# Altium schematic symbol library LimeMicroAltiumLib.SchLib: 659 symbols (part 21 of 22)
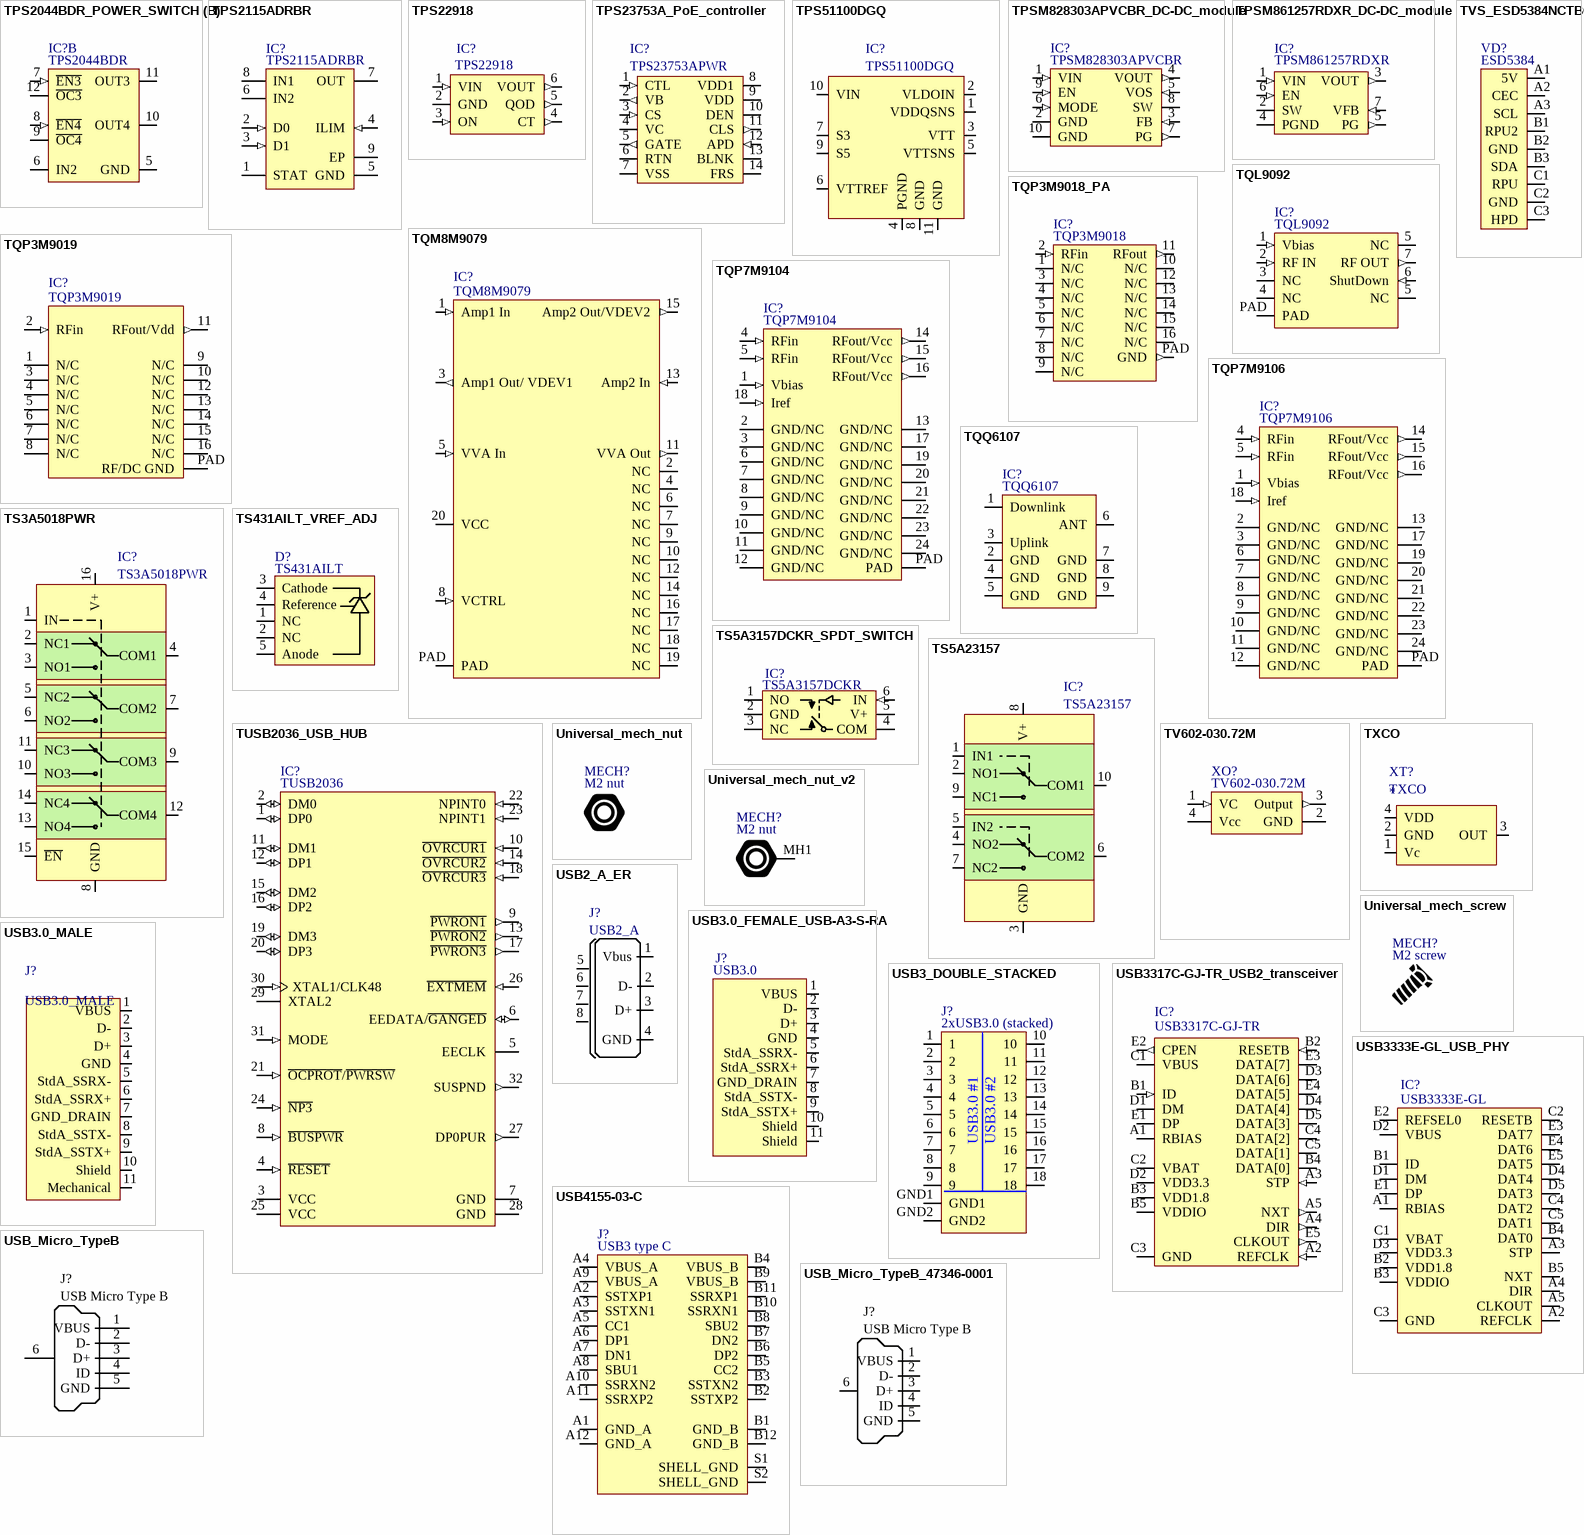
[diagram p98: symbols TPS2044BDR_POWER_SWITCH to USB_Micro_TypeB_47346-0001]

## TQP7M9104
designator IC?
2 Watt High Linearity Amplifier (700 - 2700 MHz); Part Description: RF Amplifier 700-4000MHZ 5VOLT GAIN 15.8DB NF 4.4DB; Manufacturer: Qorvo; Manufacturer Part Number 1: TQP7M9104; Supplier Part Number 1: 772-TQP7M9104; Supplier 1: Mouser
footprint TQP7M9104_QFN24
pins: 1 Vbias (in), 2 GND/NC, 3 GND/NC, 4 RFin (in), 5 RFin (in), 6 GND/NC, 7 GND/NC, 8 GND/NC, 9 GND/NC, 10 GND/NC, 11 GND/NC, 12 GND/NC, 13 GND/NC, 14 RFout/Vcc (out), 15 RFout/Vcc (out), 16 RFout/Vcc (out), 17 GND/NC, 18 Iref (in), 19 GND/NC, 20 GND/NC, 21 GND/NC, 22 GND/NC, 23 GND/NC, 24 GND/NC, PAD

## TQP7M9106
designator IC?
2 Watt High Linearity Amplifier (50 - 1500 MHz); Part Description: RF Amplifier 50-1500MHz 2W Gain 20.8dB@940MHz; Manufacturer: Qorvo; Manufacturer Part Number 1: TQP7M9106; Supplier Part Number 1: 772-TQP7M9106; Supplier 1: Mouser
footprint TQP7M9106_QFN24 (Footprint not found)
pins: 1 Vbias (in), 2 GND/NC, 3 GND/NC, 4 RFin (in), 5 RFin (in), 6 GND/NC, 7 GND/NC, 8 GND/NC, 9 GND/NC, 10 GND/NC, 11 GND/NC, 12 GND/NC, 13 GND/NC, 14 RFout/Vcc (out), 15 RFout/Vcc (out), 16 RFout/Vcc (out), 17 GND/NC, 18 Iref (in), 19 GND/NC, 20 GND/NC, 21 GND/NC, 22 GND/NC, 23 GND/NC, 24 GND/NC, PAD

## TQQ6107
designator IC?
Part Description: Band 7 BAW Duplexer, 70 MHz Bandwidth, 2.00 x 2.50 x 1.0 mm; Manufacturer Part Number 1: TQQ6107; Supplier Part Number 1: TQQ6107; Supplier 1: Qorvo
footprint TQQ6107
pins: 1 Downlink, 2 GND, 3 Uplink, 4 GND, 5 GND, 6 ANT (io), 7 GND, 8 GND, 9 GND

## TS3A5018PWR
designator IC?
Manufacturer: TEXAS INSTRUMENTS; On State Resistance Max: 10; Analog Switch Case: TSSOP; Supply Voltage Range: 2.3V to 3.6; No. of Pins: 16; Analog Switch Type: SPDT; Supplier 1: Newark; Manufacturer Part Number: TS3A5018PW; Supplier Part Number 1: 71J8329
footprint TS3A5018PWR (TSOP, 16-Leads, Body 5,00x4,40mm, Pitch 0,65mm, IPC Medium Density)
pins: 1 IN, 2 NC1, 3 NO1, 4 COM1, 5 NC2, 6 NO2, 7 COM2, 8 GND, 9 COM3, 10 NO3, 11 NC3, 12 COM4, 13 NO4, 14 NC4, 15 ~{EN}, 16 V+

## TS5A3157DCKR_SPDT_SWITCH
designator IC?, comment TS5A3157DCKR
Manufacturer: Texas Instruments; Part Description: 1 Circuit IC Switch 2:1 10Ohm SC-70-6; Nominal Supply Current: 2.5uA; Max Supply Voltage: 5.5V; Min Supply Voltage: 1.65V; Number of Channels: 1; Number of Outputs: 2; On-State Resistance: 10R; Turn-On Delay Time: 9.5ns; Turn-Off Delay Time: 7.5ns; Max Supply Current: 5uA; Throw Configuration: SPDT; Supply Type: Single; Bandwidth: 300MHz; Polarity: Non-Inverting; High Level Output Current: 100mA; Supplier 1: Digi-Key; Manufacturer Part Number 1: TS5A3157DCKR; Stock 1: 48414; Pricing 1: 1 = 0,42000, 10 = 0,35900, 100 = 0,26820, 500 = 0,21074, 1000 = 0,16284 (USD); RoHS: Yes; Mount: Surface Mount; Case/Package: SC; Number of Pins: 6; Weight: 8.8E-05oz; Contact Plating: Gold; Min Operating Temperature: -40°C; Max Operating Temperature: 85°C; Number of Inputs: 1; Packaging: Tape and Reel; Package Quantity: 1; Operating Supply Current: 2.5uA; Number of Bits: 1; Low Level Output Current: 100mA; Length: 2mm; Height: 0.9mm; Width: 1.25mm; Radiation Hardening: No; REACH SVHC: No SVHC; Lead Free: Lead Free; ComponentLink1URL: https://datasheet.ciiva.com/2980/ts5a3157-2980096.pdf?src-supplier=Avnet; ComponentLink1Description: https://datasheet.ciiva.com/2980/ts5a3157-2980096.pdf?src-supplier=Avnet; ComponentLink2URL: https://datasheet.ciiva.com/15127/getdatasheetpartid-250849-15127576.pdf?src-supplier=Verical; ComponentLink2Description: https://datasheet.ciiva.com/15127/getdatasheetpartid-250849-15127576.pdf?src-supplier=Verical; ComponentLink3URL: https://datasheet.ciiva.com/30509/ts5a3157dckr-30509768.pdf?src-supplier=RSComponents; ComponentLink3Description: https://datasheet.ciiva.com/30509/ts5a3157dckr-30509768.pdf?src-supplier=RSComponents; ComponentLink4URL: https://datasheet.ciiva.com/22652/1716489-22652683.pdf?src-supplier=Element14; ComponentLink4Description: https://datasheet.ciiva.com/22652/1716489-22652683.pdf?src-supplier=Element14; ComponentLink5URL: https://datasheet.ciiva.com/26266/ts5a3157-26266631.pdf?src-supplier=Avnet+Europe; ComponentLink5Description: https://datasheet.ciiva.com/26266/ts5a3157-26266631.pdf?src-supplier=Avnet+Europe; ComponentLink6URL: https://datasheet.ciiva.com/46382/1877040-46382312.pdf?src-supplier=Element14; ComponentLink6Description: https://datasheet.ciiva.com/46382/1877040-46382312.pdf?src-supplier=Element14; ComponentLink7URL: https://datasheet.ciiva.com/1680/ts5a3157-1680281.pdf?src-supplier=Digi-Key; ComponentLink7Description: https://datasheet.ciiva.com/1680/ts5a3157-1680281.pdf?src-supplier=Digi-Key; ComponentLink8URL: https://datasheet.ciiva.com/2978/ts5a3157-2978985.pdf?src-supplier=Avnet; ComponentLink8Description: https://datasheet.ciiva.com/2978/ts5a3157-2978985.pdf?src-supplier=Avnet; ComponentLink9URL: https://datasheet.ciiva.com/1680/ts5a3157-1680250.pdf?src-supplier=Digi-Key; ComponentLink9Description: https://datasheet.ciiva.com/1680/ts5a3157-1680250.pdf?src-supplier=Digi-Key; ComponentLink10URL: https://datasheet.ciiva.com/1680/ts5a3157-1680282.pdf?src-supplier=Digi-Key; ComponentLink10Description: https://datasheet.ciiva.com/1680/ts5a3157-1680282.pdf?src-supplier=Digi-Key; ComponentLink11URL: https://datasheet.ciiva.com/28500/ts5a3157-28500239.pdf?src-supplier=Element14; ComponentLink11Description: https://datasheet.ciiva.com/28500/ts5a3157-28500239.pdf?src-supplier=Element14; ComponentLink12URL: https://datasheet.ciiva.com/41461/001187245-da-01-en-ic-switch-spdt-ts5a3157dckr-sc-70-6-tid-41461835.pdf?src-supplier=Conrad; ComponentLink12Description: https://datasheet.ciiva.com/41461/001187245-da-01-en-ic-switch-spdt-ts5a3157dckr-sc-70-6-tid-41461835.pdf?src-supplier=Conrad; Supplier Part Number 1: 296-17588-1-ND
footprint SC-70-6_TS5A3157DCKR (SC-70 (SOT323), 6 pin)
pins: 1 NO (io), 2 GND, 3 NC (io), 4 COM (io), 5 V+ (power), 6 IN (in)

## TS5A23157
designator IC?
TS3A5018; Manufacturer: Texas Instruments; Current - Supply: 1µA; Circuit: 2 x SPDT; On-State Resistance: 10 Ohm; Voltage Supply Source: Single Supply; Voltage - Supply, Single/Dual (±): 1.8 V ~ 5.5 V; Function: Switch; Supplier 1: Digi-Key; Category: Integrated Circuits (ICs); Supplier Device Package: 10-VSSOP; Package / Case: 10-TFSOP, 10-MSOP (0.118", 3.00mm Width); Mounting Type: Surface Mount; Supplier Part Number 1: 296-17076-1-ND
footprint TS5A23157 (TSSOP, 10-Leads, Body 3,00x3,00mm, Pitch 0,50mm, IPC Medium Density)
pins: 1 IN1, 2 NO1, 3 GND, 4 NO2, 5 IN2, 6 COM2, 7 NC2, 8 V+, 9 NC1, 10 COM1

## TS431AILT_VREF_ADJ
designator D?, comment TS431AILT
Manufacturer: STMicroelectronics; Part Description: Shunt Voltage Reference IC 6V ±1% 30mA SOT-23-5; Nominal Supply Current: 30mA; Output Voltage: 6V; Max Input Voltage: 10V; Number of Channels: 1; Tolerance: 1%; Temperature Coefficient: 100ppm/°C; Cathode Current: 60uA; Reference Voltage: 1.24V; Min Output Voltage: 1.228V; Reference Type: Adjustable,Shunt; Supplier 1: Digi-Key; Manufacturer Part Number 1: TS431AILT; Stock 1: 5120; Pricing 1: 1=0.62, 10=0.533, 100=0.398, 500=0.3127, 1000=0.24164 (USD); Mount: Surface Mount; Case/Package: SOT-23-5; Number of Pins: 5; Min Operating Temperature: -40°C; Max Operating Temperature: 125°C; Packaging: Tape and Reel; Max Output Current: 30mA; Package Quantity: 1; Output Current: 30mA; Max Output Voltage: 6V; Termination: SMD/SMT; Length: 3mm; Height: 1.3mm; Width: 1.75mm; Radiation Hardening: No; REACH SVHC: No SVHC; Lead Free: Lead Free; ComponentLink1URL: https://www.verical.com/server-webapp/html/getDatasheet?partID=139054; ComponentLink1Description: https://www.verical.com/server-webapp/html/getDatasheet?partID=139054; ComponentLink2URL: http://www.st.com/content/ccc/resource/technical/document/datasheet/group1/3f/2e/70/d8/11/ee/47/a9/CD00001336/files/CD00001336.pdf/jcr:content/translations/en.CD00001336.pdf; ComponentLink2Description: http://www.st.com/content/ccc/resource/technical/document/datasheet/group1/3f/2e/70/d8/11/ee/47/a9/CD00001336/files/CD00001336.pdf/jcr:content/translations/en.CD00001336.pdf; ComponentLink3URL: http://www.st.com/web/en/resource/technical/document/datasheet/CD00001336.pdf; ComponentLink3Description: http://www.st.com/web/en/resource/technical/document/datasheet/CD00001336.pdf; ComponentLink4URL: http://www.farnell.com/datasheets/1700526.pdf; ComponentLink4Description: http://www.farnell.com/datasheets/1700526.pdf; ComponentLink5URL: http://www.mouser.com/ds/2/389/ts431-957324.pdf; ComponentLink5Description: http://www.mouser.com/ds/2/389/ts431-957324.pdf; ComponentLink6URL: http://www.produktinfo.conrad.com/datenblaetter/1100000-1199999/001185084-da-01-en-IC_VREF_SHUNT_PRE_TS431AILT_SOT_23_5_STM.pdf; ComponentLink6Description: http://www.produktinfo.conrad.com/datenblaetter/1100000-1199999/001185084-da-01-en-IC_VREF_SHUNT_PRE_TS431AILT_SOT_23_5_STM.pdf; ComponentLink7URL: http://datasheet.iiic.cc/stmicroelectronics/TS431AILT.pdf; ComponentLink7Description: http://datasheet.iiic.cc/stmicroelectronics/TS431AILT.pdf; Supplier Part Number 1: 497-2279-6-ND
footprint SOT23-5
pins: 1 NC, 2 NC, 3 Cathode, 4 Reference, 5 Anode

## TUSB2036_USB_HUB
designator IC?, comment TUSB2036
Part Description: USB Hub Controller USB 2.0 USB Interface 32-LQFP (7x7); Manufacturer: Texas Instruments; Manufacturer Part Number 1: TUSB2036VF; Operating Supply Voltage: 3.3V; Operating Supply Current: 40mA; Data Rate: 12Mbps; Min Supply Voltage: 3V; Max Supply Voltage: 3.6V; Number of Ports: 3; USB Standard: USB 2.0; ComponentLink1URL: https://datasheet.ciiva.com/1505/1535702-1505189.pdf?src-supplier=Element14; ComponentLink1Description: https://datasheet.ciiva.com/1505/1535702-1505189.pdf?src-supplier=Element14; ComponentLink2URL: https://datasheet.ciiva.com/1613/tusb2036-1613315.pdf?src-supplier=Newark; ComponentLink2Description: https://datasheet.ciiva.com/1613/tusb2036-1613315.pdf?src-supplier=Newark; ComponentLink3URL: https://datasheet.ciiva.com/15134/getdatasheetpartid-225880-15134503.pdf?src-supplier=Verical; ComponentLink3Description: https://datasheet.ciiva.com/15134/getdatasheetpartid-225880-15134503.pdf?src-supplier=Verical; ComponentLink4URL: https://datasheet.ciiva.com/5835/1535702-5835498.pdf?src-supplier=Farnell; ComponentLink4Description: https://datasheet.ciiva.com/5835/1535702-5835498.pdf?src-supplier=Farnell; ComponentLink5URL: https://datasheet.ciiva.com/1695/tusb2036-1695700.pdf?src-supplier=Digi-Key; ComponentLink5Description: https://datasheet.ciiva.com/1695/tusb2036-1695700.pdf?src-supplier=Digi-Key; ComponentLink6URL: https://datasheet.ciiva.com/41461/001187495-da-01-en-ic-2-3-port-usb-h-tusb2036vf-lqfp-32-tid-41461301.pdf?src-supplier=Conrad; ComponentLink6Description: https://datasheet.ciiva.com/41461/001187495-da-01-en-ic-2-3-port-usb-h-tusb2036vf-lqfp-32-tid-41461301.pdf?src-supplier=Conrad; Supplier 1: Digi-Key; Supplier Part Number 1: 296-11086-ND; Stock 1: 77; Pricing 1: 1=4,18000, 10=3,75400, 25=3,54880, 80=3,07575, 250=2,91796, 500=2,61828, 1000=2,38080 (USD); RoHS: Yes; Case/Package: LQFP; Number of Pins: 32; Weight: 0.006148oz; Min Operating Temperature: 0°C; Max Operating Temperature: 70°C; Package Quantity: 250; Packaging: Tray; Termination: SMD/SMT; Length: 7mm; Width: 7mm; Height: 1.4mm; Radiation Hardening: No; Lead Free: Lead Free; RoHS Compliant: Yes; REACH SVHC: No SVHC
footprint TUSB2036_USB_HUB_32-LQFP (Footprint not found)
pins: 1 DP0 (io) "Root port USB differential data plus. DP0 paired with DM0 constitutes the upstream USB port.", 2 DM0 (io) "Root port USB differential data minus. DM0 paired with DP0 constitutes the upstream USB port.", 3 VCC (power) "3.3-V supply voltage", 4 ~{RESET} (in) "R\E\S\E\T\ is an active low TTL input with hysteresis and must be asserted at power up. When R\E\S\E\T\ is asserted, all logic is initialized. Generally, a reset with a pulse width between 100 us and 1 ms is recommended (See Datasheet)", 5 EECLK (hiz) "EEPROM serial clock. When EXTMEM is high, the EEPROM interface is disabled. The EECLK terminal is disabled and must be left floating (unconnected). When EXTMEM is low, EECLK acts as a 3-state serial clock output to the (See Datasheet)", 6 EEDATA/~{GANGED} (io) "EEPROM serial data/power-management mode indicator. When E\X\T\M\E\M\ is high, EEDATA/G\A\N\G\E\D\ selects between ganged or per-port power overcurrent detection for the downstream ports. When E\X\T\M\E\M\ is (See Datasheet)", 7 GND (power) "GND terminals must be tied to ground for proper operation", 8 ~{BUSPWR} (in) "Power source indicator. B\U\S\P\W\R\ is an active-low input that indicates whether the downstream ports source their power from the USB cable or a local power supply. For the bus-power mode, this terminal must be pulled low, (See Datasheet)", 9 ~{PWRON1} (out) "Power-on/-off control signals. P\W\R\O\N\1\-P\W\R\O\N\3\ are active low, push-pull outputs that enables the external power switch device. Push-pull outputs eliminate the pullup resistors which open-drain outputs require. (See Datasheet)", 10 ~{OVRCUR1} (in) "Overcurrent input. O\V\R\C\U\R\1\ - O\V\R\C\U\R\3\ are active low. For per-port overcurrent detection, one overcurrent input is available for each of the three downstream ports. In the ganged mode, any O\V\R\C\U\R\ input may (See Datasheet)", 11 DM1 (io) "USB differential data minus. DM1-DM3 paired with DP1-DP3 support up to four downstream USB ports.", 12 DP1 (io) "USB differential data plus. DP1-DP3 paired with DM1-DM3 support up to four downstream USB ports.", 13 ~{PWRON2} (out) "Power-on/-off control signals. P\W\R\O\N\1\-P\W\R\O\N\3\ are active low, push-pull outputs that enables the external power switch device. Push-pull outputs eliminate the pullup resistors which open-drain outputs require. (See Datasheet)", 14 ~{OVRCUR2} (in) "Overcurrent input. O\V\R\C\U\R\1\ - O\V\R\C\U\R\3\ are active low. For per-port overcurrent detection, one overcurrent input is available for each of the three downstream ports. In the ganged mode, any O\V\R\C\U\R\ input may (See Datasheet)", 15 DM2 (io) "USB differential data minus. DM1-DM3 paired with DP1-DP3 support up to four downstream USB ports.", 16 DP2 (io) "USB differential data plus. DP1-DP3 paired with DM1-DM3 support up to four downstream USB ports.", 17 ~{PWRON3} (out) "Power-on/-off control signals. P\W\R\O\N\1\-P\W\R\O\N\3\ are active low, push-pull outputs that enables the external power switch device. Push-pull outputs eliminate the pullup resistors which open-drain outputs require. (See Datasheet)", 18 ~{OVRCUR3} (in) "Overcurrent input. O\V\R\C\U\R\1\ - O\V\R\C\U\R\3\ are active low. For per-port overcurrent detection, one overcurrent input is available for each of the three downstream ports. In the ganged mode, any O\V\R\C\U\R\ input may (See Datasheet)", 19 DM3 (io) "USB differential data minus. DM1-DM3 paired with DP1-DP3 support up to four downstream USB ports.", 20 DP3 (io) "USB differential data plus. DP1-DP3 paired with DM1-DM3 support up to four downstream USB ports.", 21 ~{OCPROT}/~{PWRSW} (in) "Overcurrent Protection for bus-powered hub (active low). /Power Switching for self-powered hub (active low). The terminal has a different meaning for the bus or self-powered hub. If the terminal is logic high the internal (See Datasheet)", 22 NPINT0 (in) "Number of ports internal to hub system, which are permanently attached (see Table 1).", 23 NPINT1 (in) "Number of ports internal to hub system, which are permanently attached (see Table 1).", 24 ~{NP3} (in) "Number of ports is 3. Active low input. A logic 0 configures the system to use 3 ports. A logic 1 configures the system to use 2 ports.", 25 VCC (power) "3.3-V supply voltage", 26 ~{EXTMEM} (in) "When E\X\T\M\E\M\ is high, the serial EEPROM interface of the device is disabled. When E\X\T\M\E\M\ is low, terminals 5 and 6 are configured as the clock and data terminals of the serial EEPROM interface, respectively.", 27 DP0PUR (out) "Pullup resistor connection. When a system reset happens (R\E\S\E\T\ being driven to low, but not USB reset) or any logic level change on B\U\S\P\W\R\ terminal, DP0PUR output is inactive (floating) until the internal counter (See Datasheet)", 28 GND (power) "GND terminals must be tied to ground for proper operation.", 29 XTAL2 "Crystal 2. XTAL2 is a 6-MHz crystal output. This terminal must be left open when using an oscillator", 30 XTAL1/CLK48 (in) "Crystal 1/48-MHz clock input. When MODE is low, XTAL1/CLK48 is a 6-MHz crystal input with 50% duty cycle. An internal APLL generates the 48-MHz and 12-MHz clocks used internally by the ASIC logic. When MODE is (See Datasheet)", 31 MODE (in) "Mode select. When MODE is low, the APLL output clock is selected as the clock source to drive the internal core of the device and 6-MHz crystal or oscillator can be used. When MODE is high, the clock on XTAL1/CLK48 is (See Datasheet)", 32 SUSPND (out) "Suspend status. SUSPND is an active high output available for external logic power-down operations. During the suspend mode, SUSPND is high. SUSPND is low for normal operation."

## TV602-030.72M
designator XO?
Part Description: TV602-030.72M voltage controlled oscillator, 5x7mm, high stability and low phase noise; Manufacturer: Connor Winfield; Supplier Part Number 1: TV602-030.72M; Manufacturer Part Number 1: TV602-030.72M; Supplier 1: Connor Winfield
footprint TV602-030.72M (TV602-030.72M Connor Winfield)
pins: 1 VC (in), 2 GND, 3 Output (out), 4 Vcc (power)

## TVS_ESD5384NCTBG
designator VD?, comment ESD5384
Manufacturer: ON Semiconductor; Manufacturer Part Number 1: ESD5384NCTBG; Part Description: TVS DIODE 3V 9WLCSP; Capacitance: 29pF; Direction: Unidirectional; Number of Unidirectional Channels: 5; Reverse Standoff Voltage: 3V; Min Breakdown Voltage: 6V; Power Line Protection: No; ESD Protection: Yes; Max Reverse Leakage Current: 200nA; Supplier 1: Digi-Key; Stock 1: 4993; Pricing 1: 1=0.47, 10=0.406, 100=0.3028, 500=0.23794, 1000=0.18386 (USD); Number of Pins: 9; Min Operating Temperature: -30°C; Max Operating Temperature: 85°C; Package Quantity: 5000; Packaging: Tape and Reel; Number of Lines: 5; Composition: Zener; Length: 1.14mm; Height: 0.63mm; Width: 1.14mm; Depth: 1.14mm; Radiation Hardening: No; Lead Free: Lead Free; Halogen Free: Halogen Free; Supplier Part Number 1: ESD5384NCTBGOSDKR-ND
footprint TVS_ ESD5384NCTBG
pins: A1 5V, A2 CEC, A3 SCL, B1 RPU2, B2 GND, B3 SDA, C1 RPU, C2 GND, C3 HPD

## TXCO
designator XT?
Assembly Info: *
pins: 1 Vc, 2 GND, 3 OUT, 4 VDD

## Universal_mech_nut
designator MECH?, comment M2 nut  (mechanical)
Part Description: *

## Universal_mech_nut_v2
designator MECH?, comment M2 nut
Part Description: *
pins: MH1 GND

## Universal_mech_screw
designator MECH?, comment M2 screw  (mechanical)
Part Description: *

## USB2_A_ER
designator J?, comment USB2_A
Manufacturer Part Number: A-USB/2-A-E-R; Connector Type: USB - A; Specifications: USB 2.0; Number of Contacts: 4; Supplier 1: Digi-Key; Category: Connectors, Interconnects; Supplier Part Number 1: AE10400-ND
footprint USB2_A
pins: 1 Vbus, 2 D-, 3 D+, 4 GND, 5 Shell, 6 Shell, 7 Shell, 8 Shell

## USB3.0_FEMALE_USB-A3-S-RA
designator J?, comment USB3.0
Part Description: USB-A (USB TYPE-A) USB 3.2 Gen 1 (USB 3.1 Gen 1, Superspeed (USB 3.0)) Receptacle Connector 9 Position Through Hole, Right Angle; Manufacturer: Adam Tech; Manufacturer Part Number 1: USB-A3-S-RA; Contact Resistance: 30mΩ; Current Rating: 1A; Gender: Male; Insulation Resistance: 1GΩ; Number of Contacts: 9; Number of Ports: 1; Ratings: CSA; Supplier 1: DigiKey; Supplier Part Number 1: 2057-USB-A3-S-RA-ND; Stock 1: 3821; Pricing 1: 1=0,65, 10=0,555, 25=0,5204, 50=0,4956, 100=0,4718, 300=0,4366, 500=0,42112, 1000=0,40101, 2500=0,3759 (USD); RoHS: Compliant; Lifecycle Status: Production; Max Operating Temperature: 85°C; Min Operating Temperature: -55°C; REACH SVHC: Yes; Shell Finish: Nickel; Shell Material: Steel; ComponentLink1URL: https://datasheet.octopart.com:443/USB-A3-S-RA-Adam-Tech-datasheet-169583510.pdf?src-supplier=IHS; ComponentLink1Description: https://datasheet.octopart.com:443/USB-A3-S-RA-Adam-Tech-datasheet-169583510.pdf?src-supplier=IHS; ComponentLink2URL: https://datasheet.octopart.com:443/USB-A3-S-RA-Adam-Tech-datasheet-21182917.pdf?src-supplier=Electro+Sonic; ComponentLink2Description: https://datasheet.octopart.com:443/USB-A3-S-RA-Adam-Tech-datasheet-21182917.pdf?src-supplier=Electro+Sonic; ComponentLink3URL: http://sigma.octopart.com:80/reach_statement/Adam-Tech-company-23.pdf?src-supplier=Compliance+Statements; ComponentLink3Description: http://sigma.octopart.com:80/reach_statement/Adam-Tech-company-23.pdf?src-supplier=Compliance+Statements; ComponentLink4URL: http://sigma.octopart.com:80/rohs_statement/Adam-Tech-company-22.pdf?src-supplier=Compliance+Statements; ComponentLink4Description: http://sigma.octopart.com:80/rohs_statement/Adam-Tech-company-22.pdf?src-supplier=Compliance+Statements
footprint USB3.0_FEMALE_USB-A3-S-RA (Footprint not found)
pins: 1 VBUS, 2   D-, 3 D+, 4 GND, 5 StdA_SSRX-, 6 StdA_SSRX+, 7 GND_DRAIN, 8 StdA_SSTX-, 9 StdA_SSTX+, 10 Shield, 11 Shield

## USB3.0_MALE
designator J?
Manufacturer Part Number 1: 692112030100; Manufacturer: Wurth Electronics Inc; Part Description: USB - A USB 3.0, Super Speed Plug Connector 9 Position Surface Mount, Right Angle, Horizontal; Specifications: USB 3.0, Super Speed; Number of Contacts: 9; Connector Type: USB - A; Gender: Plug; Packaging: Tray; Features: Board Lock, Shielded; Ingress Protection: -; Category: Connectors, Interconnects; RoHS: RoHS Compliant; Mounting Type: Surface Mount, Right Angle, Horizontal; Supplier 1: Digi-Key; Supplier Part Number 1: 732-3157-ND
footprint USB3A_SM
pins: 1 VBUS, 2   D-, 3 D+, 4 GND, 5 StdA_SSRX-, 6 StdA_SSRX+, 7 GND_DRAIN, 8 StdA_SSTX-, 9 StdA_SSTX+, 10 Shield, 11 Mechanical

## USB3_DOUBLE_STACKED
designator J?, comment 2xUSB3.0 (stacked)
Part Description: 2xUSB3.0, vertical, stacked
footprint USB3_DOUBLE_STACKED
pins: 1, 2, 3, 4, 5, 6, 7, 8, 9, 10, 11, 12, 13, 14, 15, 16, 17, 18, GND1, GND2
text: USB3.0 #1; USB3.0 #2

## USB3317C-GJ-TR_USB2_transceiver
designator IC?, comment USB3317C-GJ-TR
Part Description: IC TXRX USB 2.0 FLEXPWR 25BGA; Manufacturer: Microchip; Manufacturer Lifecycle Status: REL; Max Dual Supply Voltage: 5.5V; Number of Transceivers: 1; Supplier 1: DigiKey; Supplier Part Number 1: 150-USB3317C-GJ-TRCT-ND; Manufacturer Part Number 1: USB3317C-GJ-TR; Stock 1: 1646; Pricing 1: 1=2,07, 25=1,836 (USD); RoHS: Compliant; Projected EOL Date: 2034-04-15; Country of Assembly: Taiwan; Country of Fabrication: United States of America; Country of Origin: Taiwan; Export Control Classification Number (ECCN) Code: EAR99; HS Code: 8542.39.0090; Harmonized Tariff Schedule (HTS) Code: 8542.31.0030; Lifecycle Status: Production; Max Operating Temperature: 85°C; Min Operating Temperature: -40°C; Mount: Surface Mount; Number of Pins: 25; Radiation Hardening: No; ComponentLink1URL: https://datasheet.octopart.com:443/USB3317C-GJ-TR-Microchip-datasheet-99356273.pdf?src-supplier=Microchip; ComponentLink1Description: https://datasheet.octopart.com:443/USB3317C-GJ-TR-Microchip-datasheet-99356273.pdf?src-supplier=Microchip; ComponentLink2URL: https://datasheet.octopart.com:443/USB3317C-GJ-TR-Microchip-datasheet-110745152.pdf?src-supplier=Augswan; ComponentLink2Description: https://datasheet.octopart.com:443/USB3317C-GJ-TR-Microchip-datasheet-110745152.pdf?src-supplier=Augswan; ComponentLink3URL: http://sigma.octopart.com:80/188457950/materials_sheet/Microchip-USB3317C-GJ-TR.pdf?src-supplier=Compliance+Statements; ComponentLink3Description: http://sigma.octopart.com:80/188457950/materials_sheet/Microchip-USB3317C-GJ-TR.pdf?src-supplier=Compliance+Statements; ComponentLink4URL: http://sigma.octopart.com:80/rohs_statement/Microchip-company-71.pdf?src-supplier=Compliance+Statements; ComponentLink4Description: http://sigma.octopart.com:80/rohs_statement/Microchip-company-71.pdf?src-supplier=Compliance+Statements; ComponentLink5URL: http://sigma.octopart.com:80/reach_statement/Microchip-company-70.pdf?src-supplier=Compliance+Statements; ComponentLink5Description: http://sigma.octopart.com:80/reach_statement/Microchip-company-70.pdf?src-supplier=Compliance+Statements; ComponentLink6URL: http://sigma.octopart.com:80/conflict_mineral_statement/Microchip-company-69.pdf?src-supplier=Compliance+Statements; ComponentLink6Description: http://sigma.octopart.com:80/conflict_mineral_statement/Microchip-company-69.pdf?src-supplier=Compliance+Statements; ComponentLink7URL: http://sigma.octopart.com:80/conflict_mineral_statement/Microchip-company-68.pdf?src-supplier=Compliance+Statements; ComponentLink7Description: http://sigma.octopart.com:80/conflict_mineral_statement/Microchip-company-68.pdf?src-supplier=Compliance+Statements
footprint USB3317C-GJ-TR_USB2_transceiver
pins: A1 RBIAS, A2 REFCLK (in), A3 STP (in), A4 DIR (out), A5 NXT (out), B1 ID (in), B2 RESETB (in), B3 VDD1.8 (power), B4 DATA[0], B5 VDDIO (power), C1 VBUS, C2 VBAT (power), C3 GND (power), C4 DATA[2], C5 DATA[1], D1 DM, D2 VDD3.3 (power), D3 DATA[6], D4 DATA[4], D5 DATA[3], E1 DP, E2 CPEN (out), E3 DATA[7], E4 DATA[5], E5 CLKOUT (out)

## USB3333E-GL_USB_PHY
designator IC?, comment USB3333E-GL
IC USB 2.0 FHY; Part Description: Transceiver Half USB 2.0 25-WLCSP (1.97x1.97); Manufacturer: Microchip; Manufacturer Part Number 1: USB3333E-GL-TR; Data Rate: 480Mbps; Supplier 1: Digi-Key; Supplier Part Number 1: USB3333E-GL-TR-ND; Stock 1: 0; RoHS: Yes; Packaging: Tape and Reel; Package Quantity: 3000; Series: *; RoHS Compliant: Yes; ComponentLink1URL: https://datasheet.ciiva.com/6634/usb333x-6634538.pdf?src-supplier=Digi-Key; ComponentLink1Description: https://datasheet.ciiva.com/6634/usb333x-6634538.pdf?src-supplier=Digi-Key
footprint USB3333E-GL_USB_PHY_25WLCSP (Footprint not found)
pins: A1 RBIAS, A2 REFCLK, A3 STP, A4 DIR, A5 CLKOUT, B1 ID, B2 VDD1.8, B3 VDDIO, B4 DAT0, B5 NXT, C1 VBAT, C2 RESETB, C3 GND, C4 DAT2, C5 DAT1, D1 DM, D2 VBUS, D3 VDD3.3, D4 DAT4, D5 DAT3, E1 DP, E2 REFSEL0, E3 DAT7, E4 DAT6, E5 DAT5

## USB4155-03-C
designator J?, comment USB3 type C
Manufacturer: Global Connector Technology; Manufacturer Part Number 1: USB4155-03-C; Part Description: USB Connectors USB Type C, Plug, SMT , G/F, Right Angled Mount, T & R; Supplier 1: Digi-Key; Supplier Part Number 1: 2073-USB4155-03-CCT-ND; Stock 1: 0; RoHS: No
footprint USB4155-03-C (USB3 type C connector)
pins: A1 GND_A (power), A2 SSTXP1 (io), A3 SSTXN1 (io), A4 VBUS_A (power), A5 CC1 (io), A6 DP1 (io), A7 DN1 (io), A8 SBU1 (io), A9 VBUS_A (power), A10 SSRXN2 (io), A11 SSRXP2 (io), A12 GND_A (power), B1 GND_B (power), B2 SSTXP2 (io), B3 SSTXN2 (io), B4 VBUS_B (power), B5 CC2 (io), B6 DP2 (io), B7 DN2 (io), B8 SBU2 (io), B9 VBUS_B (power), B10 SSRXN1 (io), B11 SSRXP1 (io), B12 GND_B (power), S1 SHELL_GND (power), S2 SHELL_GND (power)

## USB_Micro_TypeB
designator J?, comment USB Micro Type B
Connector SMD USB Micro Type B; Connector Type: USB - micro B; Number of Contacts: 5; Supplier 1: Digi-Key; Category: Connectors, Interconnects; Mounting Type: Surface Mount, Right Angle, Horizontal; Supplier Part Number 1: 609-4616-2-ND
footprint microUSB
pins: 1 VBUS, 2 D-, 3 D+, 4 ID, 5 GND, 6 Shell

## USB_Micro_TypeB_47346-0001
designator J?, comment USB Micro Type B
Connector SMD USB Micro Type B; Part Description: USB - micro B USB 2.0 Receptacle Connector 5 Position Surface Mount, Right Angle; Manufacturer: Molex; Manufacturer Part Number 1: 47346-0001; Supplier 1: Digi-Key; Supplier Part Number 1: WM17141CT-ND; Stock 1: 48746; Pricing 1: 1=1,66000, 10=1,41200, 100=1,16660, 1000=0,92100 (USD); RoHS: Yes; ComponentLink1URL: https://datasheet.ciiva.com/30075/304740473460001-io-nectors-30075527.pdf?src-supplier=Onlinecomponents.com; ComponentLink1Description: https://datasheet.ciiva.com/30075/304740473460001-io-nectors-30075527.pdf?src-supplier=Onlinecomponents.com; ComponentLink2URL: https://datasheet.ciiva.com/22654/1630785-22654942.pdf?src-supplier=Element14; ComponentLink2Description: https://datasheet.ciiva.com/22654/1630785-22654942.pdf?src-supplier=Element14; ComponentLink3URL: https://datasheet.ciiva.com/16148/1700180473460001-io-nectors-16148917.pdf?src-supplier=Onlinecomponents.com; ComponentLink3Description: https://datasheet.ciiva.com/16148/1700180473460001-io-nectors-16148917.pdf?src-supplier=Onlinecomponents.com; ComponentLink4URL: https://datasheet.ciiva.com/11731/0900766b80dfe0a7-11731298.pdf?src-supplier=RSComponents; ComponentLink4Description: https://datasheet.ciiva.com/11731/0900766b80dfe0a7-11731298.pdf?src-supplier=RSComponents; ComponentLink5URL: https://datasheet.ciiva.com/1098/1698067-1098476.pdf?src-supplier=Element14; ComponentLink5Description: https://datasheet.ciiva.com/1098/1698067-1098476.pdf?src-supplier=Element14; ComponentLink6URL: https://datasheet.ciiva.com/4598/0473460001-io-connectors-146446-4598841.pdf?src-supplier=Mouser; ComponentLink6Description: https://datasheet.ciiva.com/4598/0473460001-io-connectors-146446-4598841.pdf?src-supplier=Mouser; ComponentLink7URL: https://datasheet.ciiva.com/28504/0473460001-io-connectors-28504587.pdf?src-supplier=Element14; ComponentLink7Description: https://datasheet.ciiva.com/28504/0473460001-io-connectors-28504587.pdf?src-supplier=Element14; ComponentLink8URL: https://datasheet.ciiva.com/46390/1681853-46390956.pdf?src-supplier=Element14; ComponentLink8Description: https://datasheet.ciiva.com/46390/1681853-46390956.pdf?src-supplier=Element14; ComponentLink9URL: https://datasheet.ciiva.com/16986/70266948-16986683.pdf?src-supplier=Allied+Electronics; ComponentLink9Description: https://datasheet.ciiva.com/16986/70266948-16986683.pdf?src-supplier=Allied+Electronics
footprint USB_Micro_TypeB_47346-0001 (Footprint not found)
pins: 1 VBUS, 2 D-, 3 D+, 4 ID, 5 GND, 6 Shell

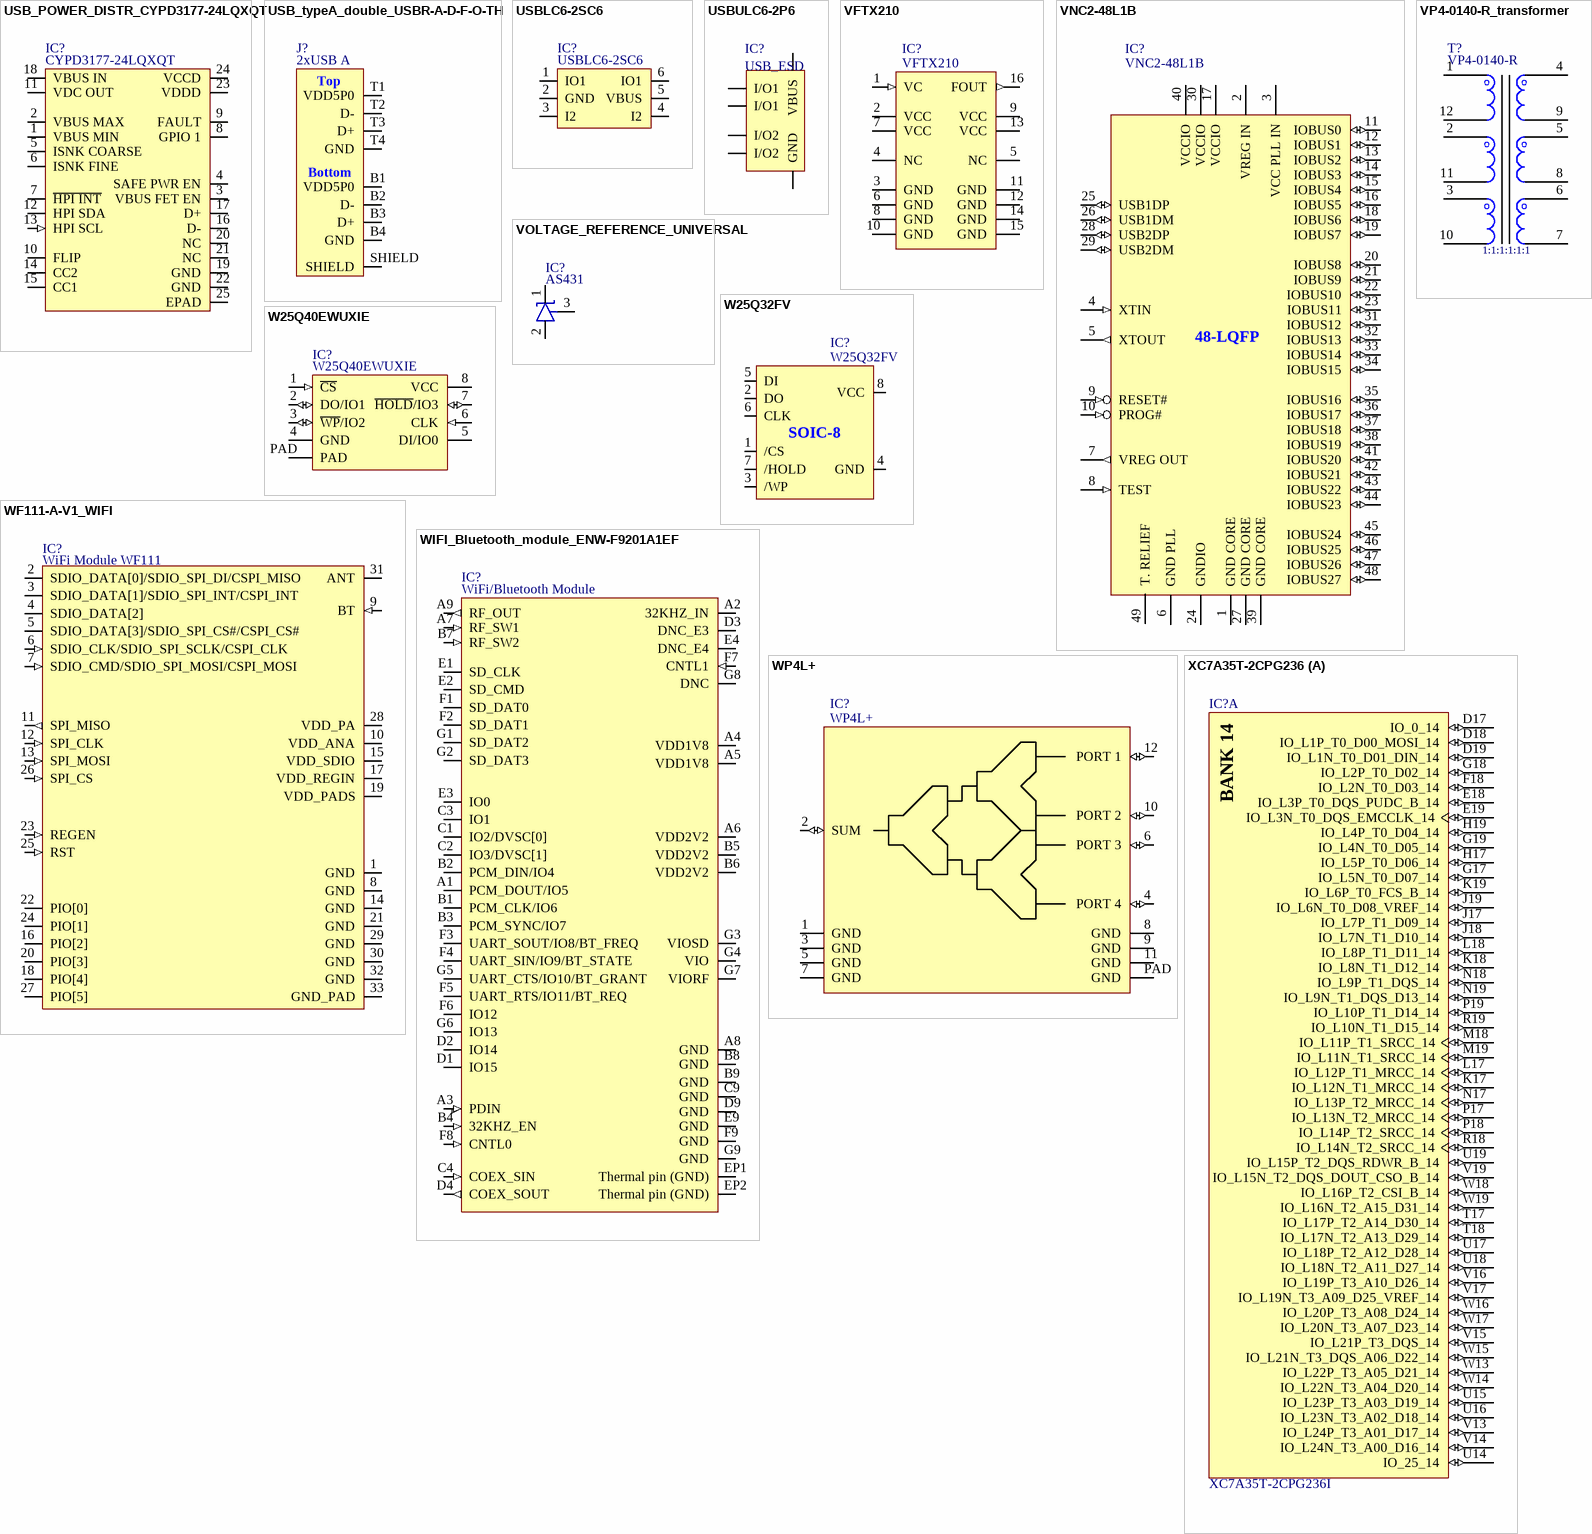
[diagram p70: symbols USB_POWER_DISTR_CYPD3177-24LQXQT to XC7A35T-2CPG236]

## USB_POWER_DISTR_CYPD3177-24LQXQT
designator IC?, comment CYPD3177-24LQXQT
Part Description: 428-CYPD3177-24LQXQTCT-ND; Manufacturer: Cypress; Supplier 1: Digi-Key; Supplier Part Number 1: 428-CYPD3177-24LQXQTCT-ND; Manufacturer Part Number 1: CYPD3177-24LQXQT; Stock 1: 19489; Pricing 1: 1=2,31000, 10=2,07900, 25=1,96080, 100=1,67080, 250=1,56880, 500=1,37270, 1000=1,13738 (USD); RoHS: No
footprint USB_POWER_DISTR_CYPD3177_QFN24 (Footprint not found)
pins: 1 VBUS MIN, 2 VBUS MAX, 3 VBUS FET EN, 4 SAFE PWR EN, 5 ISNK COARSE, 6 ISNK FINE, 7 ~{HPI INT}, 8 GPIO 1 (io), 9 FAULT (oc), 10 FLIP (io), 11 VDC OUT, 12 HPI SDA (io), 13 HPI SCL (in), 14 CC2, 15 CC1, 16 D- (io), 17 D+ (io), 18 VBUS IN (power), 19 GND (power), 20 NC, 21 NC, 22 GND (power), 23 VDDD (power), 24 VCCD (power), 25 EPAD (power)

## USB_typeA_double_USBR-A-D-F-O-TH
designator J?, comment 2xUSB A
Manufacturer: Samtec; Manufacturer Part Number 1: USBR-A-D-F-O-TH; Part Description: USB - A USB 2.0 Receptacle Connector 8 Position Through Hole, Right Angle; Number of Contacts: 4; Number of Ports: 1; Max Voltage Rating (AC): 30V; Gender: Female; Supplier 1: Digi-Key; Stock 1: 2359; Pricing 1: 1=1.6, 10=1.448, 25=1.3592, 50=1.3002, 100=1.2411, 250=1.12292, 500=1.03426, 1000=0.8865, 2500=0.8274 (USD); Mount: Through Hole; Contact Material: Bronze; Contact Plating: Gold; Number of Terminals: 4; Housing Material: Thermoplastic; Min Operating Temperature: -50°C; Max Operating Temperature: 85°C; Packaging: Bulk; Termination: Solder; Orientation: Right Angle; Radiation Hardening: No; Supplier Part Number 1: SAM10376-ND
footprint USB_typeA_double_USBR-A-D-F-O-TH
pins: B1 VDD5P0, B2 D-, B3 D+, B4 GND, SHIELD, T1 VDD5P0, T2 D-, T3 D+, T4 GND
text: Top; Bottom

## USBLC6-2SC6
designator IC?
Manufacturer: STMicroelectronics; Part Description: TVS DIODE 5.25V 17V SOT23-6; Voltage - Reverse Standoff (Typ): 5.25V; Voltage - Breakdown (Min): 6V; Voltage - Clamping (Max) @ Ipp: 17V; Current - Peak Pulse (10/1000µs): 5A (8/20µs); Power Line Protection: Yes; Supplier 1: Digi-Key; Manufacturer Part Number 1: USBLC6-2SC6; RoHS: RoHS Compliant; Category: Circuit Protection; Stock 1: 59416; Pricing 1: 1=0.49, 10=0.419, 100=0.3131, 500=0.24602, 1000=0.1901 (USD); Packaging: Cut Tape (CT); Part Status: Active; Type: Steering (Rail to Rail); Power - Peak Pulse: -; Applications: Ethernet; Capacitance @ Frequency: -; Operating Temperature: -40°C ~ 125°C (TJ); Mounting Type: Surface Mount; Package / Case: SOT-23-6; Supplier Device Package: SOT-23-6; Base Part Number: USBLC6-2; ComponentLink1URL: http://www.st.com/content/ccc/resource/technical/document/datasheet/06/1d/48/9c/6c/20/4a/b2/CD00050750.pdf/files/CD00050750.pdf/jcr:content/translations/en.CD00050750.pdf; ComponentLink1Description: http://www.st.com/content/ccc/resource/technical/document/datasheet/06/1d/48/9c/6c/20/4a/b2/CD00050750.pdf/files/CD00050750.pdf/jcr:content/translations/en.CD00050750.pdf; Supplier Part Number 1: 497-5235-1-ND
footprint SOT23-6
pins: 1 IO1 (io), 2 GND, 3 I2 (io), 4 I2 (io), 5 VBUS, 6 IO1 (io)

## USBULC6-2P6
designator IC?, comment USB_ESD
Manufacturer Part Number 1: USBULC6-2P6; Manufacturer: STMicroelectronics; Current - Peak Pulse (10/1000µs): 5A (8/20µs); Capacitance @ Frequency: 1pF @ 1MHz; Bidirectional Channels: 2; Voltage - Reverse Standoff (Typ): 5V; Voltage - Breakdown (Min): 6V; Power Line Protection: Yes; Voltage - Clamping (Max) @ Ipp: 17V; Supplier 1: Digi-Key; Unidirectional Channels: -; Mounting Type: Surface Mount; Applications: Ethernet; Type: Steering (Rail to Rail); Power - Peak Pulse: -; Category: Circuit Protection; Supplier Device Package: SOT-666; Package / Case: SOT-563, SOT-666; Packaging: Cut Tape (CT); Operating Temperature: -; RoHS: RoHS Compliant; Supplier Part Number 1: 497-15162-1-ND
footprint USBULC6
pins: 1 I/O1, 2 GND, 3 I/O2, 4 I/O2, 5 VBUS, 6 I/O1

## VFTX210
designator IC?
Low Noise TCXO to 1.0 GHz Sine Wave Output; Manufacturer: Valpey Fisher; Part Description: Low Noise TCXO to 1.0 GHz; Supplier Part Number 1: VFTX210; Manufacturer Part Number 1: VFTX210; Supplier 1: Valpey Fisher
footprint VFTX210G_DFN20x20_16
pins: 1 VC (in), 2 VCC (power), 3 GND, 4 NC, 5 NC, 6 GND, 7 VCC (power), 8 GND, 9 VCC (power), 10 GND, 11 GND, 12 GND, 13 VCC (power), 14 GND, 15 GND, 16 FOUT (out)

## VNC2-48L1B
designator IC?
Manufacturer Part Number: VNC2-48L1B-REEL; Manufacturer: FTDI, Future Technology Devices International Ltd; Current - Supply: 25mA; Voltage - Supply: 1.62 V ~ 1.98 V; Interface: SPI, UART; Standards: USB 2.0; Function: Controller; Supplier 1: Digi-Key; Supplier Device Package: 48-LQFP (7x7); Category: Integrated Circuits (ICs); Supplier: Digi-Key; Supplier Part Number 1: 768-1049-2-ND
footprint VNC2-48L1B_LQFP48 (VNC2-48L1B chip with LQFP-48 package)
pins: 1 GND CORE (power), 2 VREG IN (power), 3 VCC PLL IN (power), 4 XTIN (in), 5 XTOUT (out), 6 GND PLL (power), 7 VREG OUT (out), 8 TEST (in), 9 RESET# (in), 10 PROG# (in), 11 IOBUS0 (io), 12 IOBUS1 (io), 13 IOBUS2 (io), 14 IOBUS3 (io), 15 IOBUS4 (io), 16 IOBUS5 (io), 17 VCCIO (power), 18 IOBUS6 (io), 19 IOBUS7 (io), 20 IOBUS8 (io), 21 IOBUS9 (io), 22 IOBUS10 (io), 23 IOBUS11 (io), 24 GNDIO (power), 25 USB1DP (io), 26 USB1DM (io), 27 GND CORE (power), 28 USB2DP (io), 29 USB2DM (io), 30 VCCIO (power), 31 IOBUS12 (io), 32 IOBUS13 (io), 33 IOBUS14 (io), 34 IOBUS15 (io), 35 IOBUS16 (io), 36 IOBUS17 (io), 37 IOBUS18 (io), 38 IOBUS19 (io), 39 GND CORE (power), 40 VCCIO (power), 41 IOBUS20 (io), 42 IOBUS21 (io), 43 IOBUS22 (io), 44 IOBUS23 (io), 45 IOBUS24 (io), 46 IOBUS25 (io), 47 IOBUS26 (io), 48 IOBUS27 (io), 49 T. RELIEF (power)
text: 48-LQFP

## VOLTAGE_REFERENCE_UNIVERSAL
designator IC?, comment AS431
Manufacturer: Diodes; Manufacturer Part Number 1: LM4040D30FTA; Part Description: Shunt Voltage Reference IC Fixed 3V V ±1% 15 mA SOT-23-3; Number of Channels: 1; Tolerance: 1%; Output Voltage: 3V; Max Output Current: 15mA; Temperature Coefficient: 150ppm/°C; Cathode Current: 75uA; Reference Type: Shunt; Output Type: Fixed; Supplier 1: Digi-Key; Supplier Part Number 1: LM4040D30FTADICT-ND; Stock 1: 23016; Pricing 1: 1=0,58000, 10=0,50100, 25=0,46760, 100=0,37400, 250=0,34724, 500=0,29384, 1000=0,22705 (USD); RoHS: No; Mount: Surface Mount; Case/Package: SOT-23; Number of Pins: 3; Min Operating Temperature: -40°C; Max Operating Temperature: 125°C; Package Quantity: 3000; Packaging: Tape and Reel; Min Output Voltage: 3V; Output Current: 15mA; Max Output Voltage: 3V; Series: LM4040; Radiation Hardening: No; Lead Free: Lead Free; RoHS Compliant: No; ComponentLink1URL: https://datasheet.ciiva.com/1177/1643148-1177233.pdf?src-supplier=Avnet; ComponentLink1Description: https://datasheet.ciiva.com/1177/1643148-1177233.pdf?src-supplier=Avnet
footprint SOT23-3_v2 (SOT23, 3 pin)
pins: 1 K, 2 A, 3 NC/A

## VP4-0140-R_transformer
designator T?, comment VP4-0140-R
Part Description: 11.3µH General Purpose Pulse Transformer  Surface Mount; Manufacturer: Eaton - Electronics Division; Supplier Part Number 1: 513-1558-ND; Manufacturer Part Number 1: VP4-0140-R; Supplier 1: Digi-Key
footprint VP4-0140-R_transformer (Footprint not found)
pins: 1, 2, 3, 4, 5, 6, 7, 8, 9, 10, 11, 12
text: 1:1:1:1:1:1

## W25Q32FV
designator IC?
Manufacturer: Winbond Electronics; Manufacturer Part Number 1: W25Q32FVSSIG; Voltage - Supply: 2.7 V ~ 3.6 V; Interface: SPI Serial; Memory Type: FLASH; Speed: 104MHz; Memory Size: 32M (4M x 8); Supplier 1: Digi-Key; Package / Case: 8-SOIC (0.209", 5.30mm Width); RoHS: RoHS Compliant; Packaging: Tube; Format - Memory: FLASH; Supplier Device Package: 8-SOIC; Operating Temperature: -40°C ~ 85°C; Category: Integrated Circuits (ICs); Supplier Part Number 1: W25Q32FVSSIG-ND
footprint M25P40-VMN6TPB_SO8N (SOIC, 8-Leads, Body 4,90x3,90mm, Pitch 1,27mm, IPC Medium Density)
pins: 1 /CS, 2 DO, 3 /WP, 4 GND, 5 DI, 6 CLK, 7 /HOLD, 8 VCC
text: SOIC-8

## W25Q40EWUXIE
designator IC?
Manufacturer: Winbond Electronics; Manufacturer Part Number 1: W25Q40EWUXIE TR; Part Description: FLASH - NOR Memory IC 4Mb (512K x 8) SPI 8-USON (2x3); Memory Type: Non-Volatile; Memory Format: FLASH; Memory Size: 4Mb (512K x 8); Write Cycle Time - Word, Page: 800µs; Memory Interface: SPI; Voltage - Supply: 1.65 V ~ 1.95 V; Supplier 1: Digi-Key; RoHS: RoHS Compliant; Category: Integrated Circuits (ICs); Stock 1: 4000; Pricing 1: 1=0.75 (USD); Packaging: Cut Tape (CT); Part Status: Active; Technology: FLASH - NOR; Access Time: -; Operating Temperature: -40°C ~ 85°C (TA); Mounting Type: Surface Mount; Package / Case: 8-UFDFN Exposed Pad; Supplier Device Package: 8-USON (2x3); ComponentLink1URL: https://www.winbond.com/resource-files/w25q40ew%20revf%2011252015%20sfdp.pdf; ComponentLink1Description: https://www.winbond.com/resource-files/w25q40ew%20revf%2011252015%20sfdp.pdf; Supplier Part Number 1: W25Q40EWUXIE CT-ND
footprint W25Q40EWUXIE_8-USON
pins: 1 ~{CS} (in), 2 DO/IO1 (io), 3 ~{WP}/IO2 (io), 4 GND, 5 DI/IO0, 6 CLK (in), 7 ~{HOLD}/IO3 (io), 8 VCC (power), PAD

## WF111-A-V1_WIFI
designator IC?, comment WiFi Module WF111
Manufacturer: Bluegiga Technologies; Manufacturer Part Number 1: WF111-A-V1; Part Description: RF TXRX MODULE WIFI CHIP ANT; Data Rate: 72200Kbps; Number of Channels: 13; Operating Supply Voltage: 3.3V; Max Frequency: 2.472GHz; Supplier 1: Digi-Key; Stock 1: 1144; Pricing 1: 1=10.23, 25=9.8484, 100=9.4695 (USD); Mount: Surface Mount; Number of Pins: 33; Min Operating Temperature: -40°C; Max Operating Temperature: 85°C; Supplier Part Number 1: 1446-1031-6-ND
footprint WF111-A-V1_WIFI
pins: 1 GND, 2 SDIO_DATA[0]/SDIO_SPI_DI/CSPI_MISO (io), 3 SDIO_DATA[1]/SDIO_SPI_INT/CSPI_INT (io), 4 SDIO_DATA[2] (io), 5 SDIO_DATA[3]/SDIO_SPI_CS#/CSPI_CS# (io), 6 SDIO_CLK/SDIO_SPI_SCLK/CSPI_CLK (in), 7 SDIO_CMD/SDIO_SPI_MOSI/CSPI_MOSI (in), 8 GND, 9 BT (in), 10 VDD_ANA (power), 11 SPI_MISO (out), 12 SPI_CLK (in), 13 SPI_MOSI (in), 14 GND, 15 VDD_SDIO (power), 16 PIO[2] (io), 17 VDD_REGIN, 18 PIO[4] (io), 19 VDD_PADS (power), 20 PIO[3] (io), 21 GND, 22 PIO[0] (io), 23 REGEN (in), 24 PIO[1] (io), 25 RST (in), 26 SPI_CS (in), 27 PIO[5] (io), 28 VDD_PA (power), 29 GND, 30 GND, 31 ANT, 32 GND, 33 GND_PAD

## WIFI_Bluetooth_module_ENW-F9201A1EF
designator IC?, comment WiFi/Bluetooth Module
Manufacturer: Panasonic; Manufacturer Part Number 1: ENWF9201A1EF; Part Description: PAN9026, WI-FI DUAL BAND 2.4/5 G; Supplier 1: Digi-Key; Stock 1: 532; Pricing 1: 1=18.61, 10=16.838, 25=15.5084, 100=14.1792, 250=13.293 (USD); Supplier Part Number 1: P123486DKR-ND
footprint ENW-F9201A1EF_WIFI_Bluetooth
pins: A1 PCM_DOUT/IO5 (io), A2 32KHZ_IN, A3 PDIN (in), A4 VDD1V8 (power), A5 VDD1V8 (power), A6 VDD2V2 (power), A7 RF_SW1 (in), A8 GND, A9 RF_OUT (out), B1 PCM_CLK/IO6 (io), B2 PCM_DIN/IO4 (io), B3 PCM_SYNC/IO7 (io), B4 32KHZ_EN (in), B5 VDD2V2 (power), B6 VDD2V2 (power), B7 RF_SW2 (in), B8 GND, B9 GND, C1 IO2/DVSC[0] (io), C2 IO3/DVSC[1] (io), C3 IO1 (io), C4 COEX_SIN (in), C9 GND, D1 IO15 (io), D2 IO14 (io), D3 DNC_E3, D4 COEX_SOUT (out), D9 GND, E1 SD_CLK (io), E2 SD_CMD (io), E3 IO0 (io), E4 DNC_E4, E9 GND, EP1 Thermal pin (GND), EP2 Thermal pin (GND), F1 SD_DAT0 (io), F2 SD_DAT1 (io), F3 UART_SOUT/IO8/BT_FREQ (io), F4 UART_SIN/IO9/BT_STATE (io), F5 UART_RTS/IO11/BT_REQ (io), F6 IO12 (io), F7 CNTL1 (in), F8 CNTL0 (in), F9 GND, G1 SD_DAT2 (io), G2 SD_DAT3 (io), G3 VIOSD (power), G4 VIO (power), G5 UART_CTS/IO10/BT_GRANT (io), G6 IO13 (io), G7 VIORF (power), G8 DNC, G9 GND

## WP4L+
designator IC?
Power Splitter/Combiner 4 Way-0° 50Ω 2700 to 3800 MHz; Manufacturer: Mini-Circuits; Part Description: Power Splitter/Combiner 4 Way-0° 50Ω 2700 to 3800 MHz; Supplier 1: Mini-CIrcuits; Manufacturer Part Number 1: WP4L+; Supplier Part Number 1: WP4L+
footprint WP4L+_QFN3X3-12 (Quad Flat No Lead, Plastic; 16 Terminals; Body 3 x 3 mm; Pitch 0.5 mm)
pins: 1 GND, 2 SUM (io), 3 GND, 4 PORT 4 (io), 5 GND, 6 PORT 3 (io), 7 GND, 8 GND, 9 GND, 10 PORT 2 (io), 11 GND, 12 PORT 1 (io), PAD GND

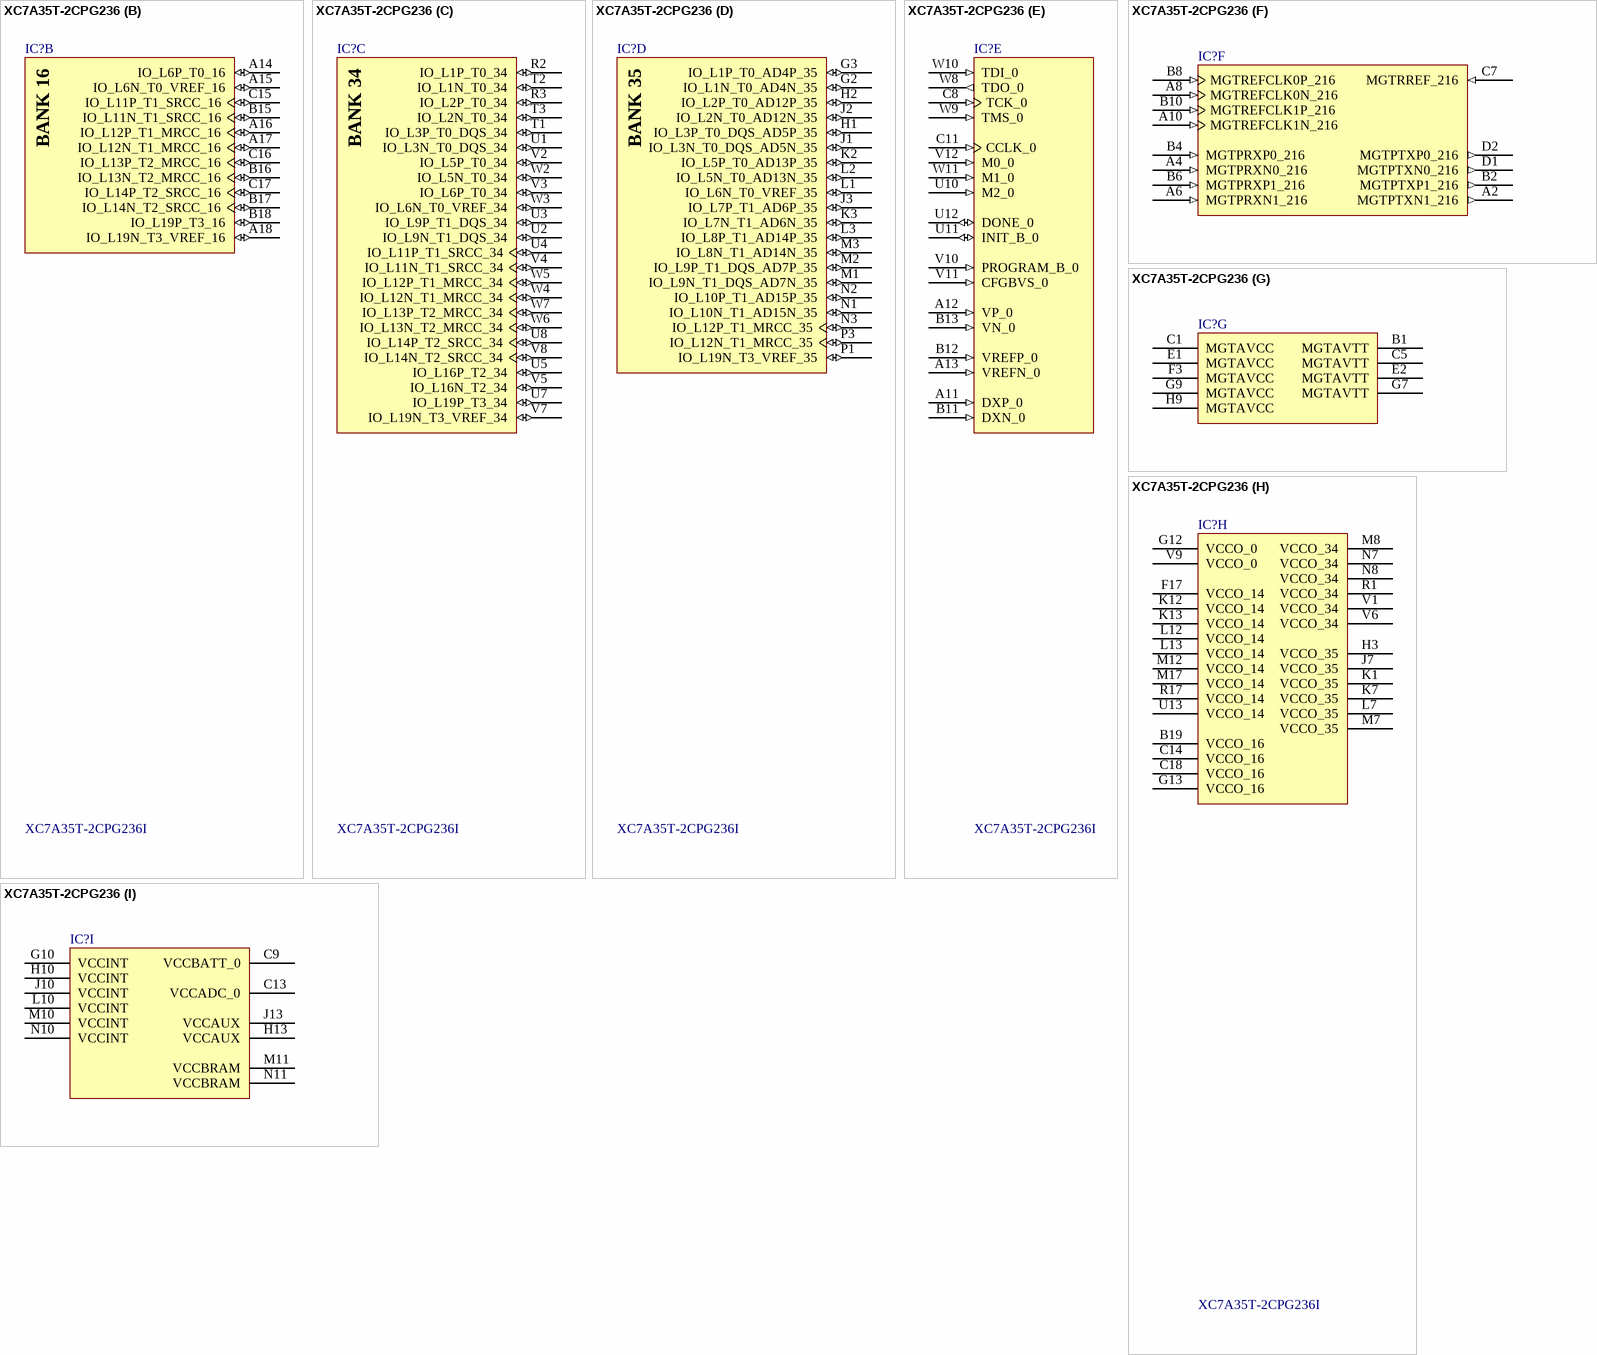
[diagram p71: symbol XC7A35T-2CPG236]

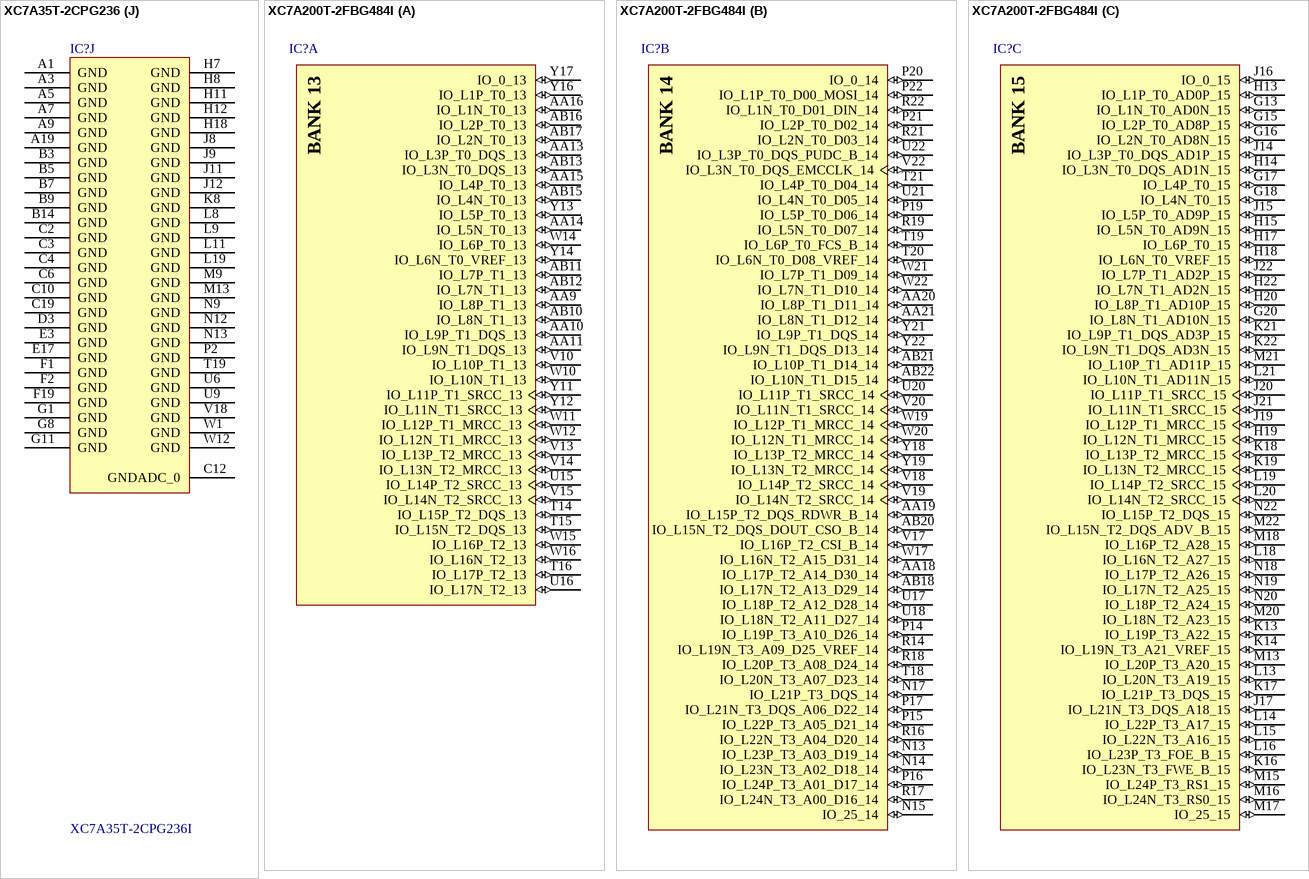
[diagram p72: symbols XC7A35T-2CPG236 to XC7A200T-2FBG484I]

## XC7A35T-2CPG236
designator IC?, comment XC7A35T-2CPG236I
Artix-7 FPGA; Part Description: Artix-7 Field Programmable Gate Array (FPGA) IC 106 2764800 52160 238-LFBGA, CSPBGA; Manufacturer: Xilinx; Manufacturer Part Number 1: XC7A50T-2CPG236I; Propagation Delay: 0.85ns; Speed Grade: 2; Number of Logic Blocks (LABs): 4075; Number of Logic Elements/Cells: 52160; RAM Size: 2764800b; Number of I/Os: 106; Number of Registers: 652; Min Supply Voltage: 950mV; Max Supply Voltage: 1.05V; ComponentLink1Description: Manufacturer URL; ComponentLink1URL: http://www.xilinx.com/; ComponentLink2Description: Datasheet; ComponentLink2URL: http://www.xilinx.com/support/documentation/data_sheets/ds180_7Series_Overview.pdf; ComponentLink3Description: Package Specification; ComponentLink3URL: http://www.xilinx.com/support/documentation/user_guides/ug475_7Series_Pkg_Pinout.pdf; ComponentLink4Description: DC and Switching Characteristics; ComponentLink4URL: http://www.xilinx.com/support/documentation/data_sheets/ds181_Artix_7_Data_Sheet.pdf; ComponentLink5Description: Package File; ComponentLink5URL: http://www.xilinx.com/support/packagefiles/a7packages/xc7a200tsbg484pkg.txt; ComponentLink6Description: Packaging and Pinout; ComponentLink6URL: http://www.xilinx.com/support/documentation/user_guides/ug475_7Series_Pkg_Pinout.pdf; Supplier 1: Digi-Key; Supplier Part Number 1: 122-2181-ND; Stock 1: 0; RoHS: Yes; Mount: Surface Mount; Number of Pins: 236; Contact Plating: Copper,Tin,Silver; Min Operating Temperature: -40°C; Max Operating Temperature: 100°C; Turn-On Delay Time: 0.85ns; RoHS Compliant: Yes; ComponentLink7URL: http://www.farnell.com/datasheets/2553941.pdf?src-supplier=Farnell; ComponentLink7Description: http://www.farnell.com/datasheets/2553941.pdf?src-supplier=Farnell; ComponentLink8URL: http://www.xilinx.com/support/documentation/data_sheets/ds181_Artix_7_Data_Sheet.pdf?src-supplier=Avnet; ComponentLink8Description: http://www.xilinx.com/support/documentation/data_sheets/ds181_Artix_7_Data_Sheet.pdf?src-supplier=Avnet; ComponentLink9URL: https://www.xilinx.com/support/documentation/data_sheets/ds180_7Series_Overview.pdf?src-supplier=Digi-Key; ComponentLink9Description: https://www.xilinx.com/support/documentation/data_sheets/ds180_7Series_Overview.pdf?src-supplier=Digi-Key
footprint XC7A35T-2CPG236 (Footprint not found)
part A pins: D17 IO_0_14 (io), D18 IO_L1P_T0_D00_MOSI_14 (io), D19 IO_L1N_T0_D01_DIN_14 (io), E18 IO_L3P_T0_DQS_PUDC_B_14 (io), E19 IO_L3N_T0_DQS_EMCCLK_14 (io), F18 IO_L2N_T0_D03_14 (io), G17 IO_L5N_T0_D07_14 (io), G18 IO_L2P_T0_D02_14 (io), G19 IO_L4N_T0_D05_14 (io), H17 IO_L5P_T0_D06_14 (io), H19 IO_L4P_T0_D04_14 (io), J17 IO_L7P_T1_D09_14 (io), J18 IO_L7N_T1_D10_14 (io), J19 IO_L6N_T0_D08_VREF_14 (io), K17 IO_L12N_T1_MRCC_14 (io), K18 IO_L8N_T1_D12_14 (io), K19 IO_L6P_T0_FCS_B_14 (io), L17 IO_L12P_T1_MRCC_14 (io), L18 IO_L8P_T1_D11_14 (io), M18 IO_L11P_T1_SRCC_14 (io), M19 IO_L11N_T1_SRCC_14 (io), N17 IO_L13P_T2_MRCC_14 (io), N18 IO_L9P_T1_DQS_14 (io), N19 IO_L9N_T1_DQS_D13_14 (io), P17 IO_L13N_T2_MRCC_14 (io), P18 IO_L14P_T2_SRCC_14 (io), P19 IO_L10P_T1_D14_14 (io), R18 IO_L14N_T2_SRCC_14 (io), R19 IO_L10N_T1_D15_14 (io), T17 IO_L17P_T2_A14_D30_14 (io), T18 IO_L17N_T2_A13_D29_14 (io), U14 IO_25_14 (io), U15 IO_L23P_T3_A03_D19_14 (io), U16 IO_L23N_T3_A02_D18_14 (io), U17 IO_L18P_T2_A12_D28_14 (io), U18 IO_L18N_T2_A11_D27_14 (io), U19 IO_L15P_T2_DQS_RDWR_B_14 (io), V13 IO_L24P_T3_A01_D17_14 (io), V14 IO_L24N_T3_A00_D16_14 (io), V15 IO_L21P_T3_DQS_14 (io), V16 IO_L19P_T3_A10_D26_14 (io), V17 IO_L19N_T3_A09_D25_VREF_14 (io), V19 IO_L15N_T2_DQS_DOUT_CSO_B_14 (io), W13 IO_L22P_T3_A05_D21_14 (io), W14 IO_L22N_T3_A04_D20_14 (io), W15 IO_L21N_T3_DQS_A06_D22_14 (io), W16 IO_L20P_T3_A08_D24_14 (io), W17 IO_L20N_T3_A07_D23_14 (io), W18 IO_L16P_T2_CSI_B_14 (io), W19 IO_L16N_T2_A15_D31_14 (io)
part B pins: A14 IO_L6P_T0_16 (io), A15 IO_L6N_T0_VREF_16 (io), A16 IO_L12P_T1_MRCC_16 (io), A17 IO_L12N_T1_MRCC_16 (io), A18 IO_L19N_T3_VREF_16 (io), B15 IO_L11N_T1_SRCC_16 (io), B16 IO_L13N_T2_MRCC_16 (io), B17 IO_L14N_T2_SRCC_16 (io), B18 IO_L19P_T3_16 (io), C15 IO_L11P_T1_SRCC_16 (io), C16 IO_L13P_T2_MRCC_16 (io), C17 IO_L14P_T2_SRCC_16 (io)
part C pins: R2 IO_L1P_T0_34 (io), R3 IO_L2P_T0_34 (io), T1 IO_L3P_T0_DQS_34 (io), T2 IO_L1N_T0_34 (io), T3 IO_L2N_T0_34 (io), U1 IO_L3N_T0_DQS_34 (io), U2 IO_L9N_T1_DQS_34 (io), U3 IO_L9P_T1_DQS_34 (io), U4 IO_L11P_T1_SRCC_34 (io), U5 IO_L16P_T2_34 (io), U7 IO_L19P_T3_34 (io), U8 IO_L14P_T2_SRCC_34 (io), V2 IO_L5P_T0_34 (io), V3 IO_L6P_T0_34 (io), V4 IO_L11N_T1_SRCC_34 (io), V5 IO_L16N_T2_34 (io), V7 IO_L19N_T3_VREF_34 (io), V8 IO_L14N_T2_SRCC_34 (io), W2 IO_L5N_T0_34 (io), W3 IO_L6N_T0_VREF_34 (io), W4 IO_L12N_T1_MRCC_34 (io), W5 IO_L12P_T1_MRCC_34 (io), W6 IO_L13N_T2_MRCC_34 (io), W7 IO_L13P_T2_MRCC_34 (io)
part D pins: G2 IO_L1N_T0_AD4N_35 (io), G3 IO_L1P_T0_AD4P_35 (io), H1 IO_L3P_T0_DQS_AD5P_35 (io), H2 IO_L2P_T0_AD12P_35 (io), J1 IO_L3N_T0_DQS_AD5N_35 (io), J2 IO_L2N_T0_AD12N_35 (io), J3 IO_L7P_T1_AD6P_35 (io), K2 IO_L5P_T0_AD13P_35 (io), K3 IO_L7N_T1_AD6N_35 (io), L1 IO_L6N_T0_VREF_35 (io), L2 IO_L5N_T0_AD13N_35 (io), L3 IO_L8P_T1_AD14P_35 (io), M1 IO_L9N_T1_DQS_AD7N_35 (io), M2 IO_L9P_T1_DQS_AD7P_35 (io), M3 IO_L8N_T1_AD14N_35 (io), N1 IO_L10N_T1_AD15N_35 (io), N2 IO_L10P_T1_AD15P_35 (io), N3 IO_L12P_T1_MRCC_35 (io), P1 IO_L19N_T3_VREF_35 (io), P3 IO_L12N_T1_MRCC_35 (io)
part E pins: A11 DXP_0 (in), A12 VP_0 (in), A13 VREFN_0 (in), B11 DXN_0 (in), B12 VREFP_0 (in), B13 VN_0 (in), C8 TCK_0 (in), C11 CCLK_0 (in), U10 M2_0 (in), U11 INIT_B_0 (io), U12 DONE_0 (io), V10 PROGRAM_B_0 (in), V11 CFGBVS_0 (in), V12 M0_0 (in), W8 TDO_0 (out), W9 TMS_0 (in), W10 TDI_0 (in), W11 M1_0 (in)
part F pins: A2 MGTPTXN1_216 (out), A4 MGTPRXN0_216 (in), A6 MGTPRXN1_216 (in), A8 MGTREFCLK0N_216 (in), A10 MGTREFCLK1N_216 (in), B2 MGTPTXP1_216 (out), B4 MGTPRXP0_216 (in), B6 MGTPRXP1_216 (in), B8 MGTREFCLK0P_216 (in), B10 MGTREFCLK1P_216 (in), C7 MGTRREF_216 (in), D1 MGTPTXN0_216 (out), D2 MGTPTXP0_216 (out)
part G pins: B1 MGTAVTT (power), C1 MGTAVCC (power), C5 MGTAVTT (power), E1 MGTAVCC (power), E2 MGTAVTT (power), F3 MGTAVCC (power), G7 MGTAVTT (power), G9 MGTAVCC (power), H9 MGTAVCC (power)
part H pins: B19 VCCO_16 (power), C14 VCCO_16 (power), C18 VCCO_16 (power), F17 VCCO_14 (power), G12 VCCO_0 (power), G13 VCCO_16 (power), H3 VCCO_35 (power), J7 VCCO_35 (power), K1 VCCO_35 (power), K7 VCCO_35 (power), K12 VCCO_14 (power), K13 VCCO_14 (power), L7 VCCO_35 (power), L12 VCCO_14 (power), L13 VCCO_14 (power), M7 VCCO_35 (power), M8 VCCO_34 (power), M12 VCCO_14 (power), M17 VCCO_14 (power), N7 VCCO_34 (power), N8 VCCO_34 (power), R1 VCCO_34 (power), R17 VCCO_14 (power), U13 VCCO_14 (power), V1 VCCO_34 (power), V6 VCCO_34 (power), V9 VCCO_0 (power)
part I pins: C9 VCCBATT_0 (power), C13 VCCADC_0 (power), G10 VCCINT (power), H10 VCCINT (power), H13 VCCAUX (power), J10 VCCINT (power), J13 VCCAUX (power), L10 VCCINT (power), M10 VCCINT (power), M11 VCCBRAM (power), N10 VCCINT (power), N11 VCCBRAM (power)
part J pins: A1 GND (power), A3 GND (power), A5 GND (power), A7 GND (power), A9 GND (power), A19 GND (power), B3 GND (power), B5 GND (power), B7 GND (power), B9 GND (power), B14 GND (power), C2 GND (power), C3 GND (power), C4 GND (power), C6 GND (power), C10 GND (power), C12 GNDADC_0 (power), C19 GND (power), D3 GND (power), E3 GND (power), E17 GND (power), F1 GND (power), F2 GND (power), F19 GND (power), G1 GND (power), G8 GND (power), G11 GND (power), H7 GND (power), H8 GND (power), H11 GND (power), H12 GND (power), H18 GND (power), J8 GND (power), J9 GND (power), J11 GND (power), J12 GND (power), K8 GND (power), L8 GND (power), L9 GND (power), L11 GND (power), L19 GND (power), M9 GND (power), M13 GND (power), N9 GND (power), N12 GND (power), N13 GND (power), P2 GND (power), T19 GND (power), U6 GND (power), U9 GND (power), V18 GND (power), W1 GND (power), W12 GND (power)
part A text: BANK 14
part B text: BANK 16
part C text: BANK 34
part D text: BANK 35

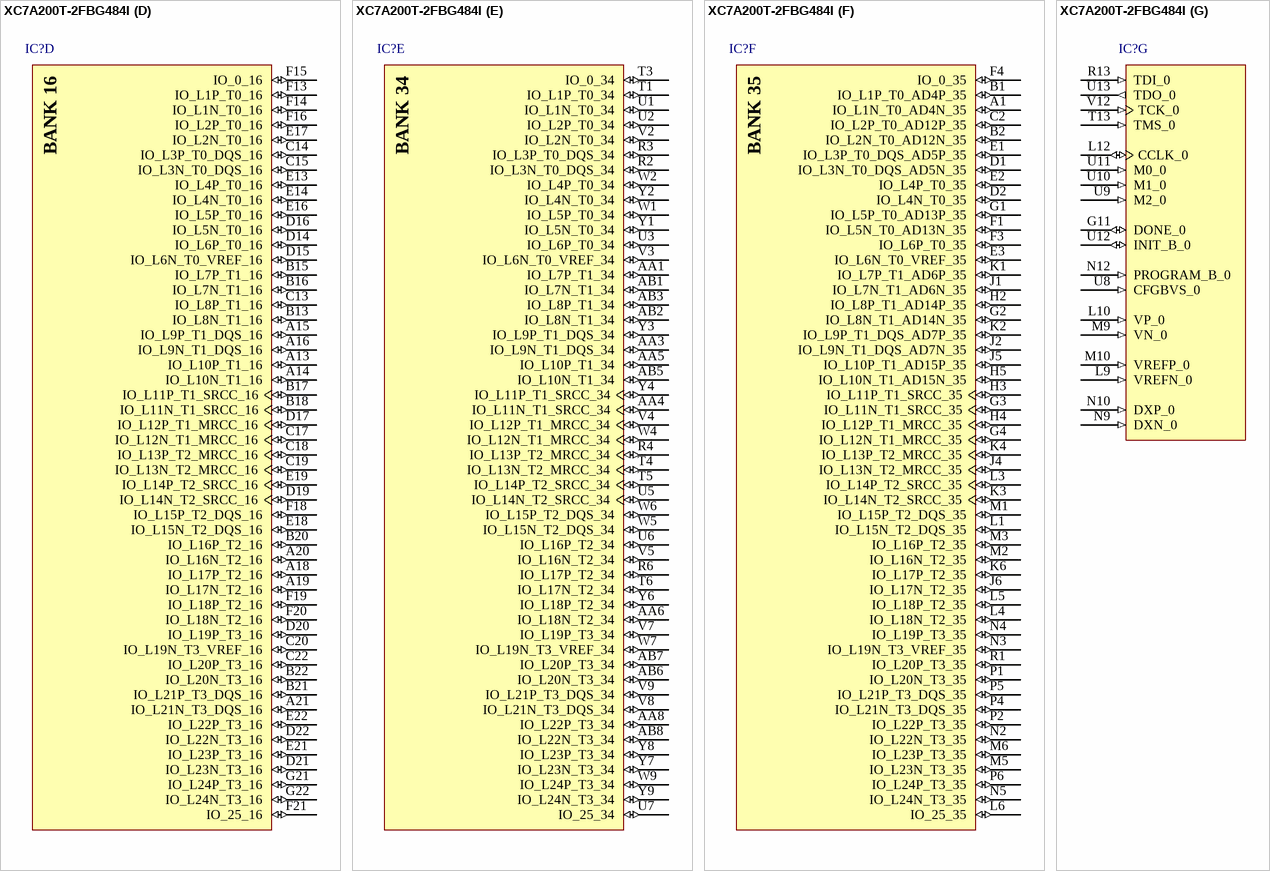
[diagram p73: symbol XC7A200T-2FBG484I]

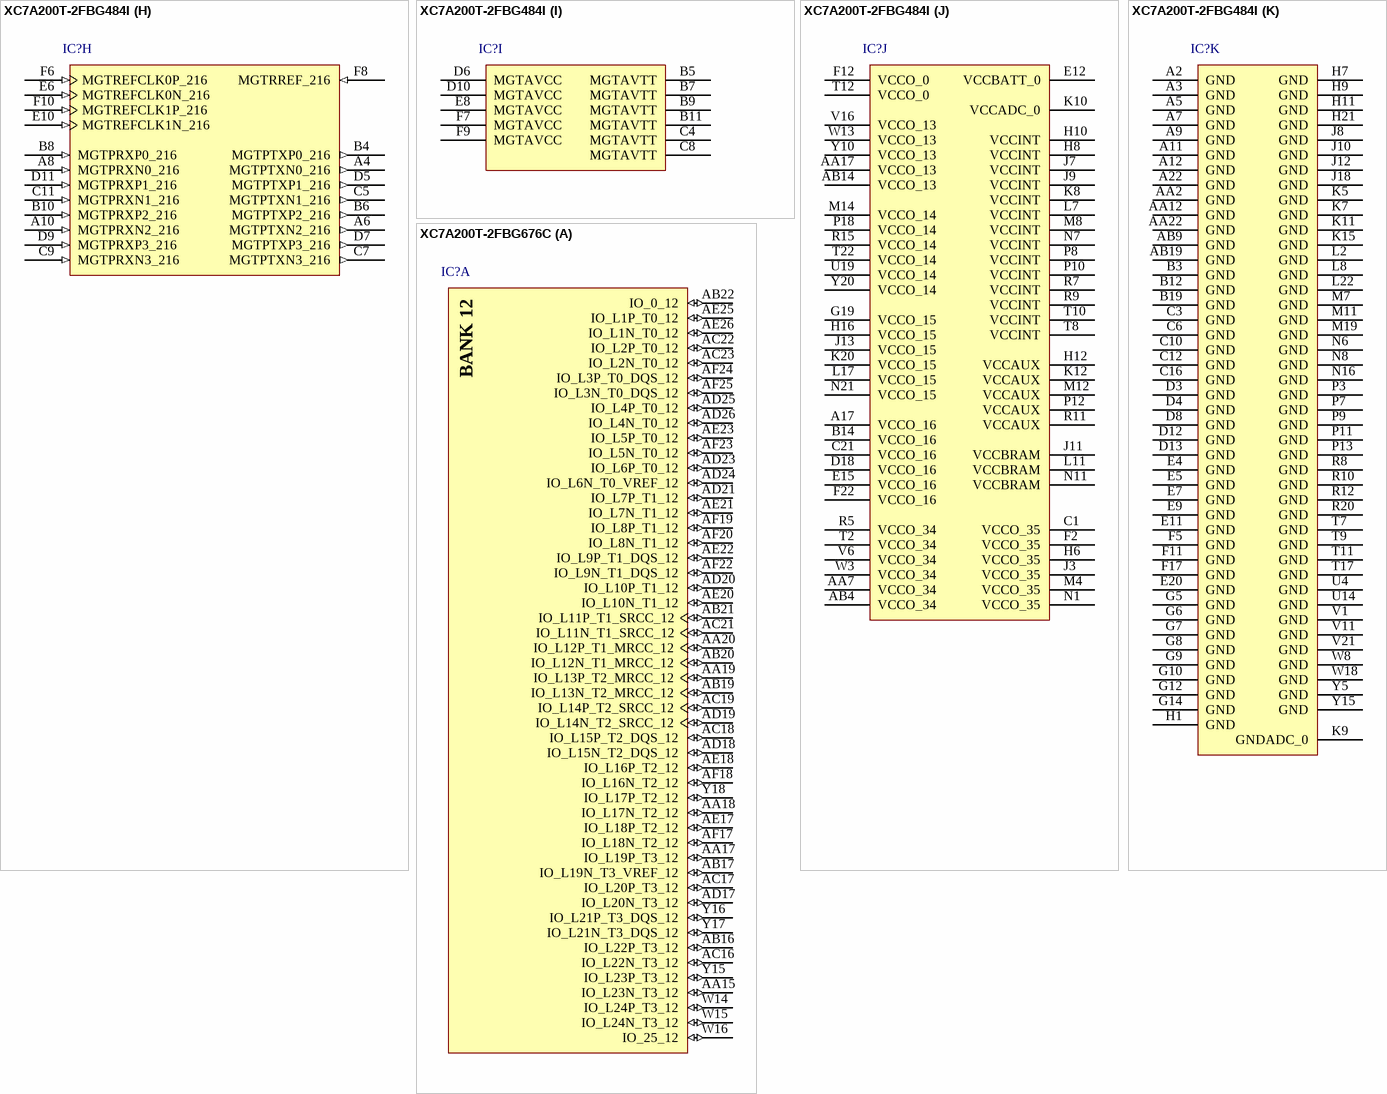
[diagram p74: symbols XC7A200T-2FBG484I to XC7A200T-2FBG676C]